# Altium integrated library TI Power Management Power Modules.IntLib: 831 symbols (part 10 of 44)
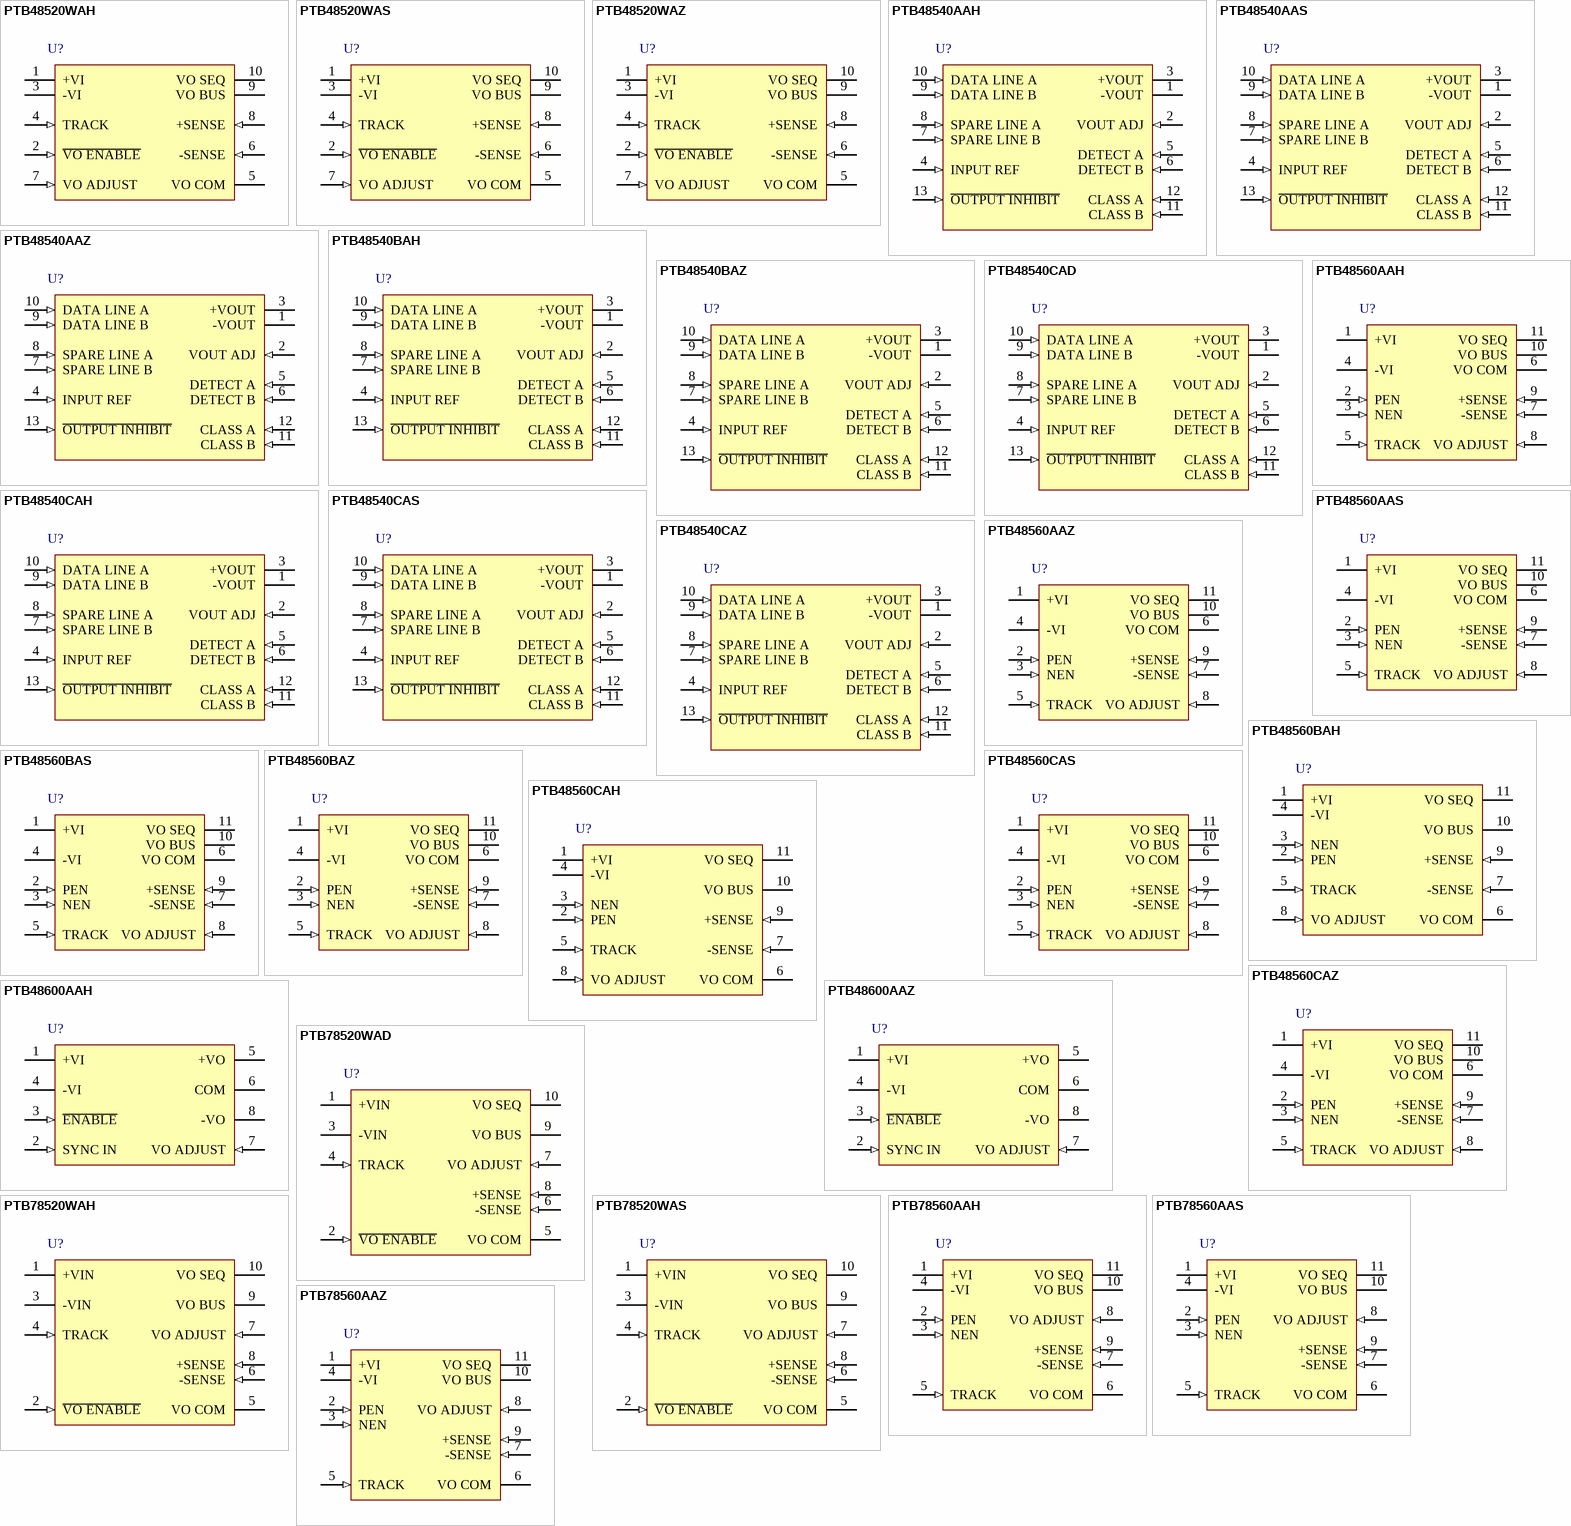
[diagram p32: symbols PTB48520WAH to PTB78560AAZ]

## PTB48540BAZ
designator U?
3.3 V, 10 W Power-Over-Ethernet Power Module, -40 to 85 degC, 13-pin Module (EUQ13), Pb-Free (RoHS); Manufacturer: Texas Instruments; PartNumber: PTB48540BAZ; Iout(Max)(A): 3; Regulated Outputs(#): 1; SubFamily: Standard Brick Module; Vin(Max)(V): 57; Vin(Min)(V): 36; VO Adjustable: TRUE; Vout(Max)(V): 3.65; Vout(Min)(V): 2.95; DatasheetVersion: SLTS224B; PackageVersion: 4205908/A; PackageReference: EUQ13; PackageDescription: 13-Pin Plastic Special Shape, Body 41.15 x 37.97 mm; Supplier 1: Digi-Key; Supplier Part Number 1: 296-20334-ND; Supplier 2: Newark; Supplier Part Number 2: 37K0684; Supplier 3: Mouser; Supplier Part Number 3: 595-PTB48540BAZ; Eco-Plan: Pb-Free (RoHS); Mounting Technology: Surface Mount; ComponentLink1Description: Manufacturer URL; ComponentLink1URL: http://www.ti.com/; ComponentLink2Description: Datasheet; ComponentLink2URL: http://www.ti.com/general/docs/lit/getliterature.tsp?genericPartNumber=PTB48540B&fileType=pdf; ComponentLink3Description: Package Specification; ComponentLink3URL: http://www.ti.com/lit/ml/mpds162/mpds162.pdf; ComponentLink4Description: URL Link1; ComponentLink4URL: Samples URL:http://www.ti.com/product/ptb48540b#samples
footprint TI-EUQ13_V (Module, 13-Leads, Body 41.15x37.97 mm)
pins: 1 -VOUT (power) "This is the negative output from the module, with respect to +Vout. Both the +Vout and -Vout terminals are isolated from the Ethernet input, and used to power the PD appliance. When this pin is connected to the PD appliance (See Datasheet)", 2 VOUT ADJ (in) "By connecting a single resistor to this pin, the regulated output voltage may be adjusted/trimmed by up to +/-10 % from the original set-point value. If no adjustment is desired, this pin should be left open circuit.", 3 +VOUT (power) "This is the positive output from the module with respect to -Vout, and is used to power the PD appliance. By connecting this pin to the PD appliance common, a negative supply voltage will be produced at -Vout.", 4 INPUT REF (in) "This pin provides access to the -Vin of the internal DC/DC converter, and is the 0-VDC reference for the ‘Output Inhibit’ control.", 5 DETECT A (in) "This is a control input that is normally left open circuit. The module incorporates an internal 24.9-kO resistor, between the ‘Detect A’ and ‘Detect B’ pins. This provides the PD with a correct “valid device” detection (See Datasheet)", 6 DETECT B (in) "This pin is used in conjunction with the ‘Detect A’ input only when it is desired for the PD to communicate a “non-valid” device signature to the PSE (see ‘Detect A’ description). ‘Detect B’ is also the rectified DC output (See Datasheet)", 7 SPARE LINE B (in) "These are alternative inputs from which the module may obtain DC input power. In a PoE application, ‘Spare Line A’ may be directly connected to pins 4 & 5, and ‘Spare Line B’ to pins 7 & 8 of an Ethernet RJ-45 connector. (See Datasheet)", 8 SPARE LINE A (in) "These are alternative inputs from which the module may obtain DC input power. In a PoE application, ‘Spare Line A’ may be directly connected to pins 4 & 5, and ‘Spare Line B’ to pins 7 & 8 of an Ethernet RJ-45 connector. (See Datasheet)", 9 DATA LINE B (in) "These are the main inputs from which the module obtains DC input power from the Ethernet connector. The connection of these inputs to the Ethernet connections must be via an IEEE 802.3af compliant signal tranformer, that is (See Datasheet)", 10 DATA LINE A (in) "These are the main inputs from which the module obtains DC input power from the Ethernet connector. The connection of these inputs to the Ethernet connections must be via an IEEE 802.3af compliant signal tranformer, that is (See Datasheet)", 11 CLASS B (in) "The control inputs ‘Class A’ and ‘Class B’ allow the PD Class to be programmed from the module. The module incorporates an internal 4.42-kO resistor between the ‘Class A’ and ‘Class B’ inputs. This corresponds to a default (See Datasheet)", 12 CLASS A (in) "The control inputs ‘Class A’ and ‘Class B’ allow the PD Class to be programmed from the module. The module incorporates an internal 4.42-kO resistor between the ‘Class A’ and ‘Class B’ inputs. This corresponds to a default (See Datasheet)", 13 ~{OUTPUT INHIBIT} (in) "This is an open-collector (or open-drain) negative logic input. Applying a low-level voltage to this input, with respect to the ‘Input Ref’ pin, turns off the DC output voltage from the module. If the pin is left (See Datasheet)"

## PTB48540CAD
designator U?
12 V, 10 W Power-Over-Ethernet Power Module, -40 to 85 degC, 13-pin Module (EUP13), Pb-Free (RoHS); Manufacturer: Texas Instruments; PartNumber: PTB48540CAD; Iout(Max)(A): 0.85; Regulated Outputs(#): 1; SubFamily: Standard Brick Module; Vin(Max)(V): 57; Vin(Min)(V): 36; VO Adjustable: TRUE; Vout(Max)(V): 13.2; Vout(Min)(V): 10.8; DatasheetVersion: SLTS224B; PackageVersion: 4205907/A; PackageReference: EUP13; PackageDescription: 13-Pin Plastic Special Shape, Body 41.15 x 37.97 mm; Supplier 1: Digi-Key; Supplier Part Number 1: PTB48540CAD-ND; Supplier 2: Newark; Supplier Part Number 2: 37K0685; Supplier 3: Mouser; Supplier Part Number 3: 595-PTB48540CAD; Eco-Plan: Pb-Free (RoHS); Mounting Technology: Surface Mount; ComponentLink1Description: Manufacturer URL; ComponentLink1URL: http://www.ti.com/; ComponentLink2Description: Datasheet; ComponentLink2URL: http://www.ti.com/general/docs/lit/getliterature.tsp?genericPartNumber=PTB48540C&fileType=pdf; ComponentLink3Description: Package Specification; ComponentLink3URL: http://www.ti.com/litv/pdf/mpds161; ComponentLink4Description: URL Link1; ComponentLink4URL: Samples URL:http://www.ti.com/product/ptb48540c#samples
footprint TI-EUP13_V (13-Leads Double Sided Module, Body 42.16x38.99mm)
pins: 1 -VOUT (power) "This is the negative output from the module, with respect to +Vout. Both the +Vout and -Vout terminals are isolated from the Ethernet input, and used to power the PD appliance. When this pin is connected to the PD appliance (See Datasheet)", 2 VOUT ADJ (in) "By connecting a single resistor to this pin, the regulated output voltage may be adjusted/trimmed by up to +/-10 % from the original set-point value. If no adjustment is desired, this pin should be left open circuit.", 3 +VOUT (power) "This is the positive output from the module with respect to -Vout, and is used to power the PD appliance. By connecting this pin to the PD appliance common, a negative supply voltage will be produced at -Vout.", 4 INPUT REF (in) "This pin provides access to the -Vin of the internal DC/DC converter, and is the 0-VDC reference for the ‘Output Inhibit’ control.", 5 DETECT A (in) "This is a control input that is normally left open circuit. The module incorporates an internal 24.9-kO resistor, between the ‘Detect A’ and ‘Detect B’ pins. This provides the PD with a correct “valid device” detection (See Datasheet)", 6 DETECT B (in) "This pin is used in conjunction with the ‘Detect A’ input only when it is desired for the PD to communicate a “non-valid” device signature to the PSE (see ‘Detect A’ description). ‘Detect B’ is also the rectified DC output (See Datasheet)", 7 SPARE LINE B (in) "These are alternative inputs from which the module may obtain DC input power. In a PoE application, ‘Spare Line A’ may be directly connected to pins 4 & 5, and ‘Spare Line B’ to pins 7 & 8 of an Ethernet RJ-45 connector. (See Datasheet)", 8 SPARE LINE A (in) "These are alternative inputs from which the module may obtain DC input power. In a PoE application, ‘Spare Line A’ may be directly connected to pins 4 & 5, and ‘Spare Line B’ to pins 7 & 8 of an Ethernet RJ-45 connector. (See Datasheet)", 9 DATA LINE B (in) "These are the main inputs from which the module obtains DC input power from the Ethernet connector. The connection of these inputs to the Ethernet connections must be via an IEEE 802.3af compliant signal tranformer, that is (See Datasheet)", 10 DATA LINE A (in) "These are the main inputs from which the module obtains DC input power from the Ethernet connector. The connection of these inputs to the Ethernet connections must be via an IEEE 802.3af compliant signal tranformer, that is (See Datasheet)", 11 CLASS B (in) "The control inputs ‘Class A’ and ‘Class B’ allow the PD Class to be programmed from the module. The module incorporates an internal 4.42-kO resistor between the ‘Class A’ and ‘Class B’ inputs. This corresponds to a default (See Datasheet)", 12 CLASS A (in) "The control inputs ‘Class A’ and ‘Class B’ allow the PD Class to be programmed from the module. The module incorporates an internal 4.42-kO resistor between the ‘Class A’ and ‘Class B’ inputs. This corresponds to a default (See Datasheet)", 13 ~{OUTPUT INHIBIT} (in) "This is an open-collector (or open-drain) negative logic input. Applying a low-level voltage to this input, with respect to the ‘Input Ref’ pin, turns off the DC output voltage from the module. If the pin is left (See Datasheet)"

## PTB48540CAH
designator U?
12 V, 10 W Power-Over-Ethernet Power Module, -40 to 85 degC, 13-pin Module (EUP13), Pb-Free (RoHS); Manufacturer: Texas Instruments; PartNumber: PTB48540CAH; Iout(Max)(A): 0.85; Regulated Outputs(#): 1; SubFamily: Standard Brick Module; Vin(Max)(V): 57; Vin(Min)(V): 36; VO Adjustable: TRUE; Vout(Max)(V): 13.2; Vout(Min)(V): 10.8; DatasheetVersion: SLTS224B; PackageVersion: 4205907/A; PackageReference: EUP13; PackageDescription: 13-Pin Plastic Special Shape, Body 41.15 x 37.97 mm; Supplier 1: Digi-Key; Supplier Part Number 1: 296-20335-ND; Supplier 2: Mouser; Supplier Part Number 2: 595-PTB48540CAH; Eco-Plan: Pb-Free (RoHS); Mounting Technology: Surface Mount; ComponentLink1Description: Manufacturer URL; ComponentLink1URL: http://www.ti.com/; ComponentLink2Description: Datasheet; ComponentLink2URL: http://www.ti.com/general/docs/lit/getliterature.tsp?genericPartNumber=PTB48540C&fileType=pdf; ComponentLink3Description: Package Specification; ComponentLink3URL: http://www.ti.com/litv/pdf/mpds161; ComponentLink4Description: URL Link1; ComponentLink4URL: Samples URL:http://www.ti.com/product/ptb48540c#samples
footprint TI-EUP13_V (13-Leads Double Sided Module, Body 42.16x38.99mm)
pins: 1 -VOUT (power) "This is the negative output from the module, with respect to +Vout. Both the +Vout and -Vout terminals are isolated from the Ethernet input, and used to power the PD appliance. When this pin is connected to the PD appliance (See Datasheet)", 2 VOUT ADJ (in) "By connecting a single resistor to this pin, the regulated output voltage may be adjusted/trimmed by up to +/-10 % from the original set-point value. If no adjustment is desired, this pin should be left open circuit.", 3 +VOUT (power) "This is the positive output from the module with respect to -Vout, and is used to power the PD appliance. By connecting this pin to the PD appliance common, a negative supply voltage will be produced at -Vout.", 4 INPUT REF (in) "This pin provides access to the -Vin of the internal DC/DC converter, and is the 0-VDC reference for the ‘Output Inhibit’ control.", 5 DETECT A (in) "This is a control input that is normally left open circuit. The module incorporates an internal 24.9-kO resistor, between the ‘Detect A’ and ‘Detect B’ pins. This provides the PD with a correct “valid device” detection (See Datasheet)", 6 DETECT B (in) "This pin is used in conjunction with the ‘Detect A’ input only when it is desired for the PD to communicate a “non-valid” device signature to the PSE (see ‘Detect A’ description). ‘Detect B’ is also the rectified DC output (See Datasheet)", 7 SPARE LINE B (in) "These are alternative inputs from which the module may obtain DC input power. In a PoE application, ‘Spare Line A’ may be directly connected to pins 4 & 5, and ‘Spare Line B’ to pins 7 & 8 of an Ethernet RJ-45 connector. (See Datasheet)", 8 SPARE LINE A (in) "These are alternative inputs from which the module may obtain DC input power. In a PoE application, ‘Spare Line A’ may be directly connected to pins 4 & 5, and ‘Spare Line B’ to pins 7 & 8 of an Ethernet RJ-45 connector. (See Datasheet)", 9 DATA LINE B (in) "These are the main inputs from which the module obtains DC input power from the Ethernet connector. The connection of these inputs to the Ethernet connections must be via an IEEE 802.3af compliant signal tranformer, that is (See Datasheet)", 10 DATA LINE A (in) "These are the main inputs from which the module obtains DC input power from the Ethernet connector. The connection of these inputs to the Ethernet connections must be via an IEEE 802.3af compliant signal tranformer, that is (See Datasheet)", 11 CLASS B (in) "The control inputs ‘Class A’ and ‘Class B’ allow the PD Class to be programmed from the module. The module incorporates an internal 4.42-kO resistor between the ‘Class A’ and ‘Class B’ inputs. This corresponds to a default (See Datasheet)", 12 CLASS A (in) "The control inputs ‘Class A’ and ‘Class B’ allow the PD Class to be programmed from the module. The module incorporates an internal 4.42-kO resistor between the ‘Class A’ and ‘Class B’ inputs. This corresponds to a default (See Datasheet)", 13 ~{OUTPUT INHIBIT} (in) "This is an open-collector (or open-drain) negative logic input. Applying a low-level voltage to this input, with respect to the ‘Input Ref’ pin, turns off the DC output voltage from the module. If the pin is left (See Datasheet)"

## PTB48540CAS
designator U?
12 V, 10 W Power-Over-Ethernet Power Module, -40 to 85 degC, 13-pin Module (EUQ13); Manufacturer: Texas Instruments; PartNumber: PTB48540CAS; Eco-Plan: TBD; Iout(Max)(A): 0.85; Regulated Outputs(#): 1; SubFamily: Standard Brick Module; Vin(Max)(V): 57; Vin(Min)(V): 36; VO Adjustable: TRUE; Vout(Max)(V): 13.2; Vout(Min)(V): 10.8; DatasheetVersion: SLTS224B; PackageVersion: 4205908/A; PackageReference: EUQ13; PackageDescription: 13-Pin Plastic Special Shape, Body 41.15 x 37.97 mm; Supplier 1: Digi-Key; Supplier Part Number 1: 296-20336-ND; Supplier 2: Newark; Supplier Part Number 2: 10J9537; Supplier 3: Mouser; Supplier Part Number 3: 595-PTB48540CAS; Mounting Technology: Surface Mount; ComponentLink1Description: Manufacturer URL; ComponentLink1URL: http://www.ti.com/; ComponentLink2Description: Datasheet; ComponentLink2URL: http://www.ti.com/general/docs/lit/getliterature.tsp?genericPartNumber=PTB48540C&fileType=pdf; ComponentLink3Description: Package Specification; ComponentLink3URL: http://www.ti.com/lit/ml/mpds162/mpds162.pdf; ComponentLink4Description: URL Link1; ComponentLink4URL: Samples URL:http://www.ti.com/product/ptb48540c#samples
footprint TI-EUQ13_V (Module, 13-Leads, Body 41.15x37.97 mm)
pins: 1 -VOUT (power) "This is the negative output from the module, with respect to +Vout. Both the +Vout and -Vout terminals are isolated from the Ethernet input, and used to power the PD appliance. When this pin is connected to the PD appliance (See Datasheet)", 2 VOUT ADJ (in) "By connecting a single resistor to this pin, the regulated output voltage may be adjusted/trimmed by up to +/-10 % from the original set-point value. If no adjustment is desired, this pin should be left open circuit.", 3 +VOUT (power) "This is the positive output from the module with respect to -Vout, and is used to power the PD appliance. By connecting this pin to the PD appliance common, a negative supply voltage will be produced at -Vout.", 4 INPUT REF (in) "This pin provides access to the -Vin of the internal DC/DC converter, and is the 0-VDC reference for the ‘Output Inhibit’ control.", 5 DETECT A (in) "This is a control input that is normally left open circuit. The module incorporates an internal 24.9-kO resistor, between the ‘Detect A’ and ‘Detect B’ pins. This provides the PD with a correct “valid device” detection (See Datasheet)", 6 DETECT B (in) "This pin is used in conjunction with the ‘Detect A’ input only when it is desired for the PD to communicate a “non-valid” device signature to the PSE (see ‘Detect A’ description). ‘Detect B’ is also the rectified DC output (See Datasheet)", 7 SPARE LINE B (in) "These are alternative inputs from which the module may obtain DC input power. In a PoE application, ‘Spare Line A’ may be directly connected to pins 4 & 5, and ‘Spare Line B’ to pins 7 & 8 of an Ethernet RJ-45 connector. (See Datasheet)", 8 SPARE LINE A (in) "These are alternative inputs from which the module may obtain DC input power. In a PoE application, ‘Spare Line A’ may be directly connected to pins 4 & 5, and ‘Spare Line B’ to pins 7 & 8 of an Ethernet RJ-45 connector. (See Datasheet)", 9 DATA LINE B (in) "These are the main inputs from which the module obtains DC input power from the Ethernet connector. The connection of these inputs to the Ethernet connections must be via an IEEE 802.3af compliant signal tranformer, that is (See Datasheet)", 10 DATA LINE A (in) "These are the main inputs from which the module obtains DC input power from the Ethernet connector. The connection of these inputs to the Ethernet connections must be via an IEEE 802.3af compliant signal tranformer, that is (See Datasheet)", 11 CLASS B (in) "The control inputs ‘Class A’ and ‘Class B’ allow the PD Class to be programmed from the module. The module incorporates an internal 4.42-kO resistor between the ‘Class A’ and ‘Class B’ inputs. This corresponds to a default (See Datasheet)", 12 CLASS A (in) "The control inputs ‘Class A’ and ‘Class B’ allow the PD Class to be programmed from the module. The module incorporates an internal 4.42-kO resistor between the ‘Class A’ and ‘Class B’ inputs. This corresponds to a default (See Datasheet)", 13 ~{OUTPUT INHIBIT} (in) "This is an open-collector (or open-drain) negative logic input. Applying a low-level voltage to this input, with respect to the ‘Input Ref’ pin, turns off the DC output voltage from the module. If the pin is left (See Datasheet)"

## PTB48540CAZ
designator U?
12 V, 10 W Power-Over-Ethernet Power Module, -40 to 85 degC, 13-pin Module (EUQ13), Pb-Free (RoHS); Manufacturer: Texas Instruments; PartNumber: PTB48540CAZ; Iout(Max)(A): 0.85; Regulated Outputs(#): 1; SubFamily: Standard Brick Module; Vin(Max)(V): 57; Vin(Min)(V): 36; VO Adjustable: TRUE; Vout(Max)(V): 13.2; Vout(Min)(V): 10.8; DatasheetVersion: SLTS224B; PackageVersion: 4205908/A; PackageReference: EUQ13; PackageDescription: 13-Pin Plastic Special Shape, Body 41.15 x 37.97 mm; Supplier 1: Digi-Key; Supplier Part Number 1: 296-20337-ND; Supplier 2: Newark; Supplier Part Number 2: 37K0686; Supplier 3: Mouser; Supplier Part Number 3: 595-PTB48540CAZ; Eco-Plan: Pb-Free (RoHS); Mounting Technology: Surface Mount; ComponentLink1Description: Manufacturer URL; ComponentLink1URL: http://www.ti.com/; ComponentLink2Description: Datasheet; ComponentLink2URL: http://www.ti.com/general/docs/lit/getliterature.tsp?genericPartNumber=PTB48540C&fileType=pdf; ComponentLink3Description: Package Specification; ComponentLink3URL: http://www.ti.com/lit/ml/mpds162/mpds162.pdf; ComponentLink4Description: URL Link1; ComponentLink4URL: Samples URL:http://www.ti.com/product/tps55010#samples
footprint TI-EUQ13_V (Module, 13-Leads, Body 41.15x37.97 mm)
pins: 1 -VOUT (power) "This is the negative output from the module, with respect to +Vout. Both the +Vout and -Vout terminals are isolated from the Ethernet input, and used to power the PD appliance. When this pin is connected to the PD appliance (See Datasheet)", 2 VOUT ADJ (in) "By connecting a single resistor to this pin, the regulated output voltage may be adjusted/trimmed by up to +/-10 % from the original set-point value. If no adjustment is desired, this pin should be left open circuit.", 3 +VOUT (power) "This is the positive output from the module with respect to -Vout, and is used to power the PD appliance. By connecting this pin to the PD appliance common, a negative supply voltage will be produced at -Vout.", 4 INPUT REF (in) "This pin provides access to the -Vin of the internal DC/DC converter, and is the 0-VDC reference for the ‘Output Inhibit’ control.", 5 DETECT A (in) "This is a control input that is normally left open circuit. The module incorporates an internal 24.9-kO resistor, between the ‘Detect A’ and ‘Detect B’ pins. This provides the PD with a correct “valid device” detection (See Datasheet)", 6 DETECT B (in) "This pin is used in conjunction with the ‘Detect A’ input only when it is desired for the PD to communicate a “non-valid” device signature to the PSE (see ‘Detect A’ description). ‘Detect B’ is also the rectified DC output (See Datasheet)", 7 SPARE LINE B (in) "These are alternative inputs from which the module may obtain DC input power. In a PoE application, ‘Spare Line A’ may be directly connected to pins 4 & 5, and ‘Spare Line B’ to pins 7 & 8 of an Ethernet RJ-45 connector. (See Datasheet)", 8 SPARE LINE A (in) "These are alternative inputs from which the module may obtain DC input power. In a PoE application, ‘Spare Line A’ may be directly connected to pins 4 & 5, and ‘Spare Line B’ to pins 7 & 8 of an Ethernet RJ-45 connector. (See Datasheet)", 9 DATA LINE B (in) "These are the main inputs from which the module obtains DC input power from the Ethernet connector. The connection of these inputs to the Ethernet connections must be via an IEEE 802.3af compliant signal tranformer, that is (See Datasheet)", 10 DATA LINE A (in) "These are the main inputs from which the module obtains DC input power from the Ethernet connector. The connection of these inputs to the Ethernet connections must be via an IEEE 802.3af compliant signal tranformer, that is (See Datasheet)", 11 CLASS B (in) "The control inputs ‘Class A’ and ‘Class B’ allow the PD Class to be programmed from the module. The module incorporates an internal 4.42-kO resistor between the ‘Class A’ and ‘Class B’ inputs. This corresponds to a default (See Datasheet)", 12 CLASS A (in) "The control inputs ‘Class A’ and ‘Class B’ allow the PD Class to be programmed from the module. The module incorporates an internal 4.42-kO resistor between the ‘Class A’ and ‘Class B’ inputs. This corresponds to a default (See Datasheet)", 13 ~{OUTPUT INHIBIT} (in) "This is an open-collector (or open-drain) negative logic input. Applying a low-level voltage to this input, with respect to the ‘Input Ref’ pin, turns off the DC output voltage from the module. If the pin is left (See Datasheet)"

## PTB48560AAH
designator U?
30 W, 3.6 to 5.5 V Adjustable DC-DC Converter with Auto-Track, -40 to 85 degC, 11-pin Module (ERW11), Pb-Free (RoHS); Manufacturer: Texas Instruments; PartNumber: PTB48560AAH; Iout(Max)(A): 6; Regulated Outputs(#): 1; SubFamily: Standard Brick Module; Vin(Max)(V): 75; Vin(Min)(V): 36; VO Adjustable: TRUE; Vout(Max)(V): 5.5; Vout(Min)(V): 3.6; DatasheetVersion: SLTS236A; PackageVersion: 4206562/A; PackageReference: ERW11; PackageDescription: 11-Pin Plastic Special Shape, Body 26.54 x 51.94 mm; Supplier 1: Digi-Key; Supplier Part Number 1: 296-20338-ND; Supplier 2: Newark; Supplier Part Number 2: 28K3810; Supplier 3: Mouser; Supplier Part Number 3: 595-PTB48560AAH; Eco-Plan: Pb-Free (RoHS); Mounting Technology: Through Hole; ComponentLink1Description: Manufacturer URL; ComponentLink1URL: http://www.ti.com/; ComponentLink2Description: Datasheet; ComponentLink2URL: http://www.ti.com/general/docs/lit/getliterature.tsp?genericPartNumber=PTB48560A&fileType=pdf; ComponentLink3Description: Package Specification; ComponentLink3URL: http://www.ti.com/litv/pdf/mpds197; ComponentLink4Description: URL Link1; ComponentLink4URL: Samples URL:http://www.ti.com/product/ptb48560a#samples
footprint TI-ERW11_V (Module, 11-Leads, Body 51.94x26.54 mm)
pins: 1 +VI (power) "The positive input for the module with respect to -VI . When powering the module from a negative input voltage, this input is connected to the input source ground.", 2 PEN (in) "An open-collector (open-drain) positive logic input that is referenced to -VI . When this input is pulled to potential the converter output is disabled. This input must be open circuit for the converter to operate. The (See Datasheet)", 3 NEN (in) "An open-collector (open-drain) negative logic input that is referenced to -VI . This input must be pulled to -VI potential to enable the converter. When the input is open circuit, the converter output is disabled. If the (See Datasheet)", 4 -VI (power) "The negative input supply for the module, and the 0-V reference for the PEN and NEN enable inputs. When powering the module from a positive source, this input is connected to the input source return.", 5 TRACK (in) "This terminal is used in power-up sequencing applications to control the output voltage of Auto-Track compatible modules, powered from the converter VOBus output. This includes the converter VOSeq output on the PTB78560B. (See Datasheet)", 6 VO COM (power) "This is the output power return for both the VO Bus and VO Seq output voltages. This terminal should be connected to the common of the load circuit.", 7 -SENSE (in) "Provides the converter with a remote sense capability when used with +Sense. For optimum output voltage accuracy, this pin should always be connected to VOCOM, close to the load circuit. This terminal is also the reference (See Datasheet)", 8 VO ADJUST (in) "A resistor must be connected between this terminal and -Sense to set the converter output voltage. A 0.05-W rated resistor may be used, with tolerance and temperature stability of 1% and 100 ppm/degreesC, respectively. If (See Datasheet)", 9 +SENSE (in) "The +Sense pin can be connected to VOBus (or VOSeq) output. When connected to VOSeq, remote sense compensation is delayed until the converter's power-up sequence is complete. The voltage at VOBus is also raised slightly. The (See Datasheet)", 10 VO BUS (power) "This is the positive power output with respect to VO COM, and the main output from the converter. It is dc isolated from the input power pins and produces a valid output voltage approximately 20 ms before the voltage at the (See Datasheet)", 11 VO SEQ (power) "This is a sequenced output voltage from the converter that is controlled by the Track terminal during power-up transitions. It is only available to the PTB78560B, and used with the output voltage set to 3.3 V (an I/O supply (See Datasheet)"

## PTB48560AAS
designator U?
30 W, 3.6 to 5.5 V Adjustable DC-DC Converter with Auto-Track, -40 to 85 degC, 11-pin Module (ERY11); Manufacturer: Texas Instruments; PartNumber: PTB48560AAS; Eco-Plan: TBD; Iout(Max)(A): 6; Regulated Outputs(#): 1; SubFamily: Standard Brick Module; Vin(Max)(V): 75; Vin(Min)(V): 36; VO Adjustable: TRUE; Vout(Max)(V): 5.5; Vout(Min)(V): 3.6; DatasheetVersion: SLTS236A; PackageVersion: 4206563/A; PackageReference: ERY11; PackageDescription: 11-Pin Plastic Special Shape, Body 26.54 x 51.94 mm; Supplier 1: Digi-Key; Supplier Part Number 1: 296-20339-ND; Supplier 2: Newark; Supplier Part Number 2: 28K3811; Supplier 3: Mouser; Supplier Part Number 3: 595-PTB48560AAS; Mounting Technology: Surface Mount; ComponentLink1Description: Manufacturer URL; ComponentLink1URL: http://www.ti.com/; ComponentLink2Description: Datasheet; ComponentLink2URL: http://www.ti.com/general/docs/lit/getliterature.tsp?genericPartNumber=PTB48560A&fileType=pdf; ComponentLink3Description: Package Specification; ComponentLink3URL: http://www.ti.com/lit/ml/mpds198/mpds198.pdf; ComponentLink4Description: URL Link1; ComponentLink4URL: Samples URL:http://www.ti.com/product/ptb48560a#samples
footprint TI-ERY11_V (Module, 11-Leads, Body 51.94x26.54mm)
pins: 1 +VI (power) "The positive input for the module with respect to -VI . When powering the module from a negative input voltage, this input is connected to the input source ground.", 2 PEN (in) "An open-collector (open-drain) positive logic input that is referenced to -VI . When this input is pulled to potential the converter output is disabled. This input must be open circuit for the converter to operate. The (See Datasheet)", 3 NEN (in) "An open-collector (open-drain) negative logic input that is referenced to -VI . This input must be pulled to -VI potential to enable the converter. When the input is open circuit, the converter output is disabled. If the (See Datasheet)", 4 -VI (power) "The negative input supply for the module, and the 0-V reference for the PEN and NEN enable inputs. When powering the module from a positive source, this input is connected to the input source return.", 5 TRACK (in) "This terminal is used in power-up sequencing applications to control the output voltage of Auto-Track compatible modules, powered from the converter VOBus output. This includes the converter VOSeq output on the PTB78560B. (See Datasheet)", 6 VO COM (power) "This is the output power return for both the VO Bus and VO Seq output voltages. This terminal should be connected to the common of the load circuit.", 7 -SENSE (in) "Provides the converter with a remote sense capability when used with +Sense. For optimum output voltage accuracy, this pin should always be connected to VOCOM, close to the load circuit. This terminal is also the reference (See Datasheet)", 8 VO ADJUST (in) "A resistor must be connected between this terminal and -Sense to set the converter output voltage. A 0.05-W rated resistor may be used, with tolerance and temperature stability of 1% and 100 ppm/degreesC, respectively. If (See Datasheet)", 9 +SENSE (in) "The +Sense pin can be connected to VOBus (or VOSeq) output. When connected to VOSeq, remote sense compensation is delayed until the converter's power-up sequence is complete. The voltage at VOBus is also raised slightly. The (See Datasheet)", 10 VO BUS (power) "This is the positive power output with respect to VO COM, and the main output from the converter. It is dc isolated from the input power pins and produces a valid output voltage approximately 20 ms before the voltage at the (See Datasheet)", 11 VO SEQ (power) "This is a sequenced output voltage from the converter that is controlled by the Track terminal during power-up transitions. It is only available to the PTB78560B, and used with the output voltage set to 3.3 V (an I/O supply (See Datasheet)"

## PTB48560AAZ
designator U?
30 W, 3.6 to 5.5 V Adjustable DC-DC Converter with Auto-Track, -40 to 85 degC, 11-pin Module (ERY11), Pb-Free (RoHS); Manufacturer: Texas Instruments; PartNumber: PTB48560AAZ; Iout(Max)(A): 6; Regulated Outputs(#): 1; SubFamily: Standard Brick Module; Vin(Max)(V): 75; Vin(Min)(V): 36; VO Adjustable: TRUE; Vout(Max)(V): 5.5; Vout(Min)(V): 3.6; DatasheetVersion: SLTS236A; PackageVersion: 4206563/A; PackageReference: ERY11; PackageDescription: 11-Pin Plastic Special Shape, Body 26.54 x 51.94 mm; Supplier 1: Digi-Key; Supplier Part Number 1: 296-20340-ND; Supplier 2: Newark; Supplier Part Number 2: 37K0687; Supplier 3: Mouser; Supplier Part Number 3: 595-PTB48560AAZ; Eco-Plan: Pb-Free (RoHS); Mounting Technology: Surface Mount; ComponentLink1Description: Manufacturer URL; ComponentLink1URL: http://www.ti.com/; ComponentLink2Description: Datasheet; ComponentLink2URL: http://www.ti.com/general/docs/lit/getliterature.tsp?genericPartNumber=PTB48560A&fileType=pdf; ComponentLink3Description: Package Specification; ComponentLink3URL: http://www.ti.com/lit/ml/mpds198/mpds198.pdf; ComponentLink4Description: URL Link1; ComponentLink4URL: Samples URL:http://www.ti.com/product/ptb48560a#samples
footprint TI-ERY11_V (Module, 11-Leads, Body 51.94x26.54mm)
pins: 1 +VI (power) "The positive input for the module with respect to -VI . When powering the module from a negative input voltage, this input is connected to the input source ground.", 2 PEN (in) "An open-collector (open-drain) positive logic input that is referenced to -VI . When this input is pulled to potential the converter output is disabled. This input must be open circuit for the converter to operate. The (See Datasheet)", 3 NEN (in) "An open-collector (open-drain) negative logic input that is referenced to -VI . This input must be pulled to -VI potential to enable the converter. When the input is open circuit, the converter output is disabled. If the (See Datasheet)", 4 -VI (power) "The negative input supply for the module, and the 0-V reference for the PEN and NEN enable inputs. When powering the module from a positive source, this input is connected to the input source return.", 5 TRACK (in) "This terminal is used in power-up sequencing applications to control the output voltage of Auto-Track compatible modules, powered from the converter VOBus output. This includes the converter VOSeq output on the PTB78560B. (See Datasheet)", 6 VO COM (power) "This is the output power return for both the VO Bus and VO Seq output voltages. This terminal should be connected to the common of the load circuit.", 7 -SENSE (in) "Provides the converter with a remote sense capability when used with +Sense. For optimum output voltage accuracy, this pin should always be connected to VOCOM, close to the load circuit. This terminal is also the reference (See Datasheet)", 8 VO ADJUST (in) "A resistor must be connected between this terminal and -Sense to set the converter output voltage. A 0.05-W rated resistor may be used, with tolerance and temperature stability of 1% and 100 ppm/degreesC, respectively. If (See Datasheet)", 9 +SENSE (in) "The +Sense pin can be connected to VOBus (or VOSeq) output. When connected to VOSeq, remote sense compensation is delayed until the converter's power-up sequence is complete. The voltage at VOBus is also raised slightly. The (See Datasheet)", 10 VO BUS (power) "This is the positive power output with respect to VO COM, and the main output from the converter. It is dc isolated from the input power pins and produces a valid output voltage approximately 20 ms before the voltage at the (See Datasheet)", 11 VO SEQ (power) "This is a sequenced output voltage from the converter that is controlled by the Track terminal during power-up transitions. It is only available to the PTB78560B, and used with the output voltage set to 3.3 V (an I/O supply (See Datasheet)"

## PTB48560BAH
designator U?
30 W 48 V Input DC-DC Converter with Auto-Track Sequencing, -40 to 85 degC, 11-pin Module (ERW11), Pb-Free (RoHS); Manufacturer: Texas Instruments; PartNumber: PTB48560BAH; Iout(Max)(A): 8; Regulated Outputs(#): 1; SubFamily: Standard Brick Module; Vin(Max)(V): 75; Vin(Min)(V): 36; VO Adjustable: TRUE; Vout(Max)(V): 3.6; Vout(Min)(V): 1.8; DatasheetVersion: SLTS236A; PackageVersion: 4206562/A; PackageReference: ERW11; PackageDescription: 11-Pin Plastic Special Shape, Body 26.54 x 51.94 mm; Supplier 1: Digi-Key; Supplier Part Number 1: 296-20341-ND; Supplier 2: Farnell; Supplier Part Number 2: 1696307; Supplier 3: Newark; Supplier Part Number 3: 28K3812; Supplier 4: Mouser; Supplier Part Number 4: 595-PTB48560BAH; Eco-Plan: Pb-Free (RoHS); Mounting Technology: Through Hole; ComponentLink1Description: Manufacturer URL; ComponentLink1URL: http://www.ti.com/; ComponentLink2Description: Datasheet; ComponentLink2URL: http://www.ti.com/general/docs/lit/getliterature.tsp?genericPartNumber=PTB48560B&fileType=pdf; ComponentLink3Description: Package Specification; ComponentLink3URL: http://www.ti.com/litv/pdf/mpds197; ComponentLink4Description: URL Link1; ComponentLink4URL: Samples URL:http://www.ti.com/product/ptb48560b#samples
footprint TI-ERW11_V (Module, 11-Leads, Body 51.94x26.54 mm)
pins: 1 +VI (power) "The positive input for the module with respect to -VI. When powering the module from a negative input voltage, this input is connected to the input source ground.", 2 PEN (in) "An open-collector (open-drain) positive logic input that is referenced to -VI. When this input is pulled to -VI potential the converter output is disabled. This input must be open circuit for the converter to operate. The (See Datasheet)", 3 NEN (in) "An open-collector (open-drain) negative logic input that is referenced to -VI. This input must be pulled to -VI potential to enable the converter. When the input is open circuit, the converter output is disabled. If the (See Datasheet)", 4 -VI (power) "The negative input supply for the module, and the 0-V reference for the PEN and NEN enable inputs. When powering the module from a positive source, this input is connected to the input source return.", 5 TRACK (in) "This terminal is used in power-up sequencing applications to control the output voltage of Auto-Track compatible modules, powered from the converter VOBus output. This includes the converter VOSeq output on the PTB48560B. (See Datasheet)", 6 VO COM (power) "This is the output power return for both the VO Bus and VO Seq output voltages. This terminal should be connected to the common of the load circuit.", 7 -SENSE (in) "Provides the converter with a remote sense capability when used with +Sense. For optimum output voltage accuracy, this pin should always be connected to VOCOM, close to the load circuit. This terminal is also the reference (See Datasheet)", 8 VO ADJUST (in) "A resistor must be connected between this terminal and -Sense to set the converter output voltage. A 0.05-W rated resistor may be used, with tolerance and temperature stability of 1% and 100 ppm/degreesC, respectively. If (See Datasheet)", 9 +SENSE (in) "The +Sense pin can be connected to VOBus (or VOSeq) output. When connected to VOSeq, remote sense compensation is delayed until the converter's power-up sequence is complete. The voltage at VOBus is also raised slightly. The (See Datasheet)", 10 VO BUS (power) "This is the positive power output with respect to VO COM, and the main output from the converter. It is dc isolated from the input power pins and produces a valid output voltage approximately 20 ms before the voltage at the (See Datasheet)", 11 VO SEQ (power) "This is a sequenced output voltage from the converter that is controlled by the Track terminal during power-up transitions. It is only available to the PTB48560B, and used with the output voltage set to 3.3 V (an I/O supply (See Datasheet)"

## PTB48560BAS
designator U?
30 W 48 V Input DC-DC Converter with Auto-Track Sequencing, -40 to 85 degC, 11-pin Module (ERY11); Manufacturer: Texas Instruments; PartNumber: PTB48560BAS; Eco-Plan: TBD; Iout(Max)(A): 8; Regulated Outputs(#): 1; SubFamily: Standard Brick Module; Vin(Max)(V): 75; Vin(Min)(V): 36; VO Adjustable: TRUE; Vout(Max)(V): 3.6; Vout(Min)(V): 1.8; DatasheetVersion: SLTS236A; PackageVersion: 4206563/A; PackageReference: ERY11; PackageDescription: 11-Pin Plastic Special Shape, Body 26.54 x 51.94 mm; Supplier 1: Digi-Key; Supplier Part Number 1: 296-20342-ND; Supplier 2: Mouser; Supplier Part Number 2: 595-PTB48560BAS; Mounting Technology: Surface Mount; ComponentLink1Description: Manufacturer URL; ComponentLink1URL: http://www.ti.com/; ComponentLink2Description: Datasheet; ComponentLink2URL: http://www.ti.com/general/docs/lit/getliterature.tsp?genericPartNumber=PTB48560B&fileType=pdf; ComponentLink3Description: Package Specification; ComponentLink3URL: http://www.ti.com/lit/ml/mpds198/mpds198.pdf; ComponentLink4Description: URL Link1; ComponentLink4URL: Samples URL:http://www.ti.com/product/ptb48560b#samples
footprint TI-ERY11_V (Module, 11-Leads, Body 51.94x26.54mm)
pins: 1 +VI (power) "The positive input for the module with respect to -VI . When powering the module from a negative input voltage, this input is connected to the input source ground.", 2 PEN (in) "An open-collector (open-drain) positive logic input that is referenced to -VI . When this input is pulled to potential the converter output is disabled. This input must be open circuit for the converter to operate. The (See Datasheet)", 3 NEN (in) "An open-collector (open-drain) negative logic input that is referenced to -VI . This input must be pulled to -VI potential to enable the converter. When the input is open circuit, the converter output is disabled. If the (See Datasheet)", 4 -VI (power) "The negative input supply for the module, and the 0-V reference for the PEN and NEN enable inputs. When powering the module from a positive source, this input is connected to the input source return.", 5 TRACK (in) "This terminal is used in power-up sequencing applications to control the output voltage of Auto-Track compatible modules, powered from the converter VOBus output. This includes the converter VOSeq output on the PTB78560B. (See Datasheet)", 6 VO COM (power) "This is the output power return for both the VO Bus and VO Seq output voltages. This terminal should be connected to the common of the load circuit.", 7 -SENSE (in) "Provides the converter with a remote sense capability when used with +Sense. For optimum output voltage accuracy, this pin should always be connected to VOCOM, close to the load circuit. This terminal is also the reference (See Datasheet)", 8 VO ADJUST (in) "A resistor must be connected between this terminal and -Sense to set the converter output voltage. A 0.05-W rated resistor may be used, with tolerance and temperature stability of 1% and 100 ppm/degreesC, respectively. If (See Datasheet)", 9 +SENSE (in) "The +Sense pin can be connected to VOBus (or VOSeq) output. When connected to VOSeq, remote sense compensation is delayed until the converter's power-up sequence is complete. The voltage at VOBus is also raised slightly. The (See Datasheet)", 10 VO BUS (power) "This is the positive power output with respect to VO COM, and the main output from the converter. It is dc isolated from the input power pins and produces a valid output voltage approximately 20 ms before the voltage at the (See Datasheet)", 11 VO SEQ (power) "This is a sequenced output voltage from the converter that is controlled by the Track terminal during power-up transitions. It is only available to the PTB78560B, and used with the output voltage set to 3.3 V (an I/O supply (See Datasheet)"

## PTB48560BAZ
designator U?
30 W 48 V Input DC-DC Converter with Auto-Track Sequencing, -40 to 85 degC, 11-pin Module (ERY11), Pb-Free (RoHS); Manufacturer: Texas Instruments; PartNumber: PTB48560BAZ; Iout(Max)(A): 8; Regulated Outputs(#): 1; SubFamily: Standard Brick Module; Vin(Max)(V): 75; Vin(Min)(V): 36; VO Adjustable: TRUE; Vout(Max)(V): 3.6; Vout(Min)(V): 1.8; DatasheetVersion: SLTS236A; PackageVersion: 4206563/A; PackageReference: ERY11; PackageDescription: 11-Pin Plastic Special Shape, Body 26.54 x 51.94 mm; Supplier 1: Digi-Key; Supplier Part Number 1: 296-20343-ND; Supplier 2: Newark; Supplier Part Number 2: 37K0688; Supplier 3: Mouser; Supplier Part Number 3: 595-PTB48560BAZ; Eco-Plan: Pb-Free (RoHS); Mounting Technology: Surface Mount; ComponentLink1Description: Manufacturer URL; ComponentLink1URL: http://www.ti.com/; ComponentLink2Description: Datasheet; ComponentLink2URL: http://www.ti.com/general/docs/lit/getliterature.tsp?genericPartNumber=PTB48560B&fileType=pdf; ComponentLink3Description: Package Specification; ComponentLink3URL: http://www.ti.com/lit/ml/mpds198/mpds198.pdf; ComponentLink4Description: URL Link1; ComponentLink4URL: Samples URL:http://www.ti.com/product/ptb48560b#samples
footprint TI-ERY11_V (Module, 11-Leads, Body 51.94x26.54mm)
pins: 1 +VI (power) "The positive input for the module with respect to -VI . When powering the module from a negative input voltage, this input is connected to the input source ground.", 2 PEN (in) "An open-collector (open-drain) positive logic input that is referenced to -VI . When this input is pulled to potential the converter output is disabled. This input must be open circuit for the converter to operate. The (See Datasheet)", 3 NEN (in) "An open-collector (open-drain) negative logic input that is referenced to -VI . This input must be pulled to -VI potential to enable the converter. When the input is open circuit, the converter output is disabled. If the (See Datasheet)", 4 -VI (power) "The negative input supply for the module, and the 0-V reference for the PEN and NEN enable inputs. When powering the module from a positive source, this input is connected to the input source return.", 5 TRACK (in) "This terminal is used in power-up sequencing applications to control the output voltage of Auto-Track compatible modules, powered from the converter VOBus output. This includes the converter VOSeq output on the PTB78560B. (See Datasheet)", 6 VO COM (power) "This is the output power return for both the VO Bus and VO Seq output voltages. This terminal should be connected to the common of the load circuit.", 7 -SENSE (in) "Provides the converter with a remote sense capability when used with +Sense. For optimum output voltage accuracy, this pin should always be connected to VOCOM, close to the load circuit. This terminal is also the reference (See Datasheet)", 8 VO ADJUST (in) "A resistor must be connected between this terminal and -Sense to set the converter output voltage. A 0.05-W rated resistor may be used, with tolerance and temperature stability of 1% and 100 ppm/degreesC, respectively. If (See Datasheet)", 9 +SENSE (in) "The +Sense pin can be connected to VOBus (or VOSeq) output. When connected to VOSeq, remote sense compensation is delayed until the converter's power-up sequence is complete. The voltage at VOBus is also raised slightly. The (See Datasheet)", 10 VO BUS (power) "This is the positive power output with respect to VO COM, and the main output from the converter. It is dc isolated from the input power pins and produces a valid output voltage approximately 20 ms before the voltage at the (See Datasheet)", 11 VO SEQ (power) "This is a sequenced output voltage from the converter that is controlled by the Track terminal during power-up transitions. It is only available to the PTB78560B, and used with the output voltage set to 3.3 V (an I/O supply (See Datasheet)"

## PTB48560CAH
designator U?
30 W, 9 to 13.2 V Adjustable DC-DC Converter with Auto-Track, -40 to 85 degC, 11-pin Module (ERW11), Pb-Free (RoHS); Manufacturer: Texas Instruments; PartNumber: PTB48560CAH; Iout(Max)(A): 2.5; Regulated Outputs(#): 1; SubFamily: Standard Brick Module; Vin(Max)(V): 75; Vin(Min)(V): 36; VO Adjustable: TRUE; Vout(Max)(V): 13.2; Vout(Min)(V): 9; DatasheetVersion: SLTS236A; PackageVersion: 4206562/A; PackageReference: ERW11; PackageDescription: 11-Pin Plastic Special Shape, Body 26.54 x 51.94 mm; Supplier 1: Digi-Key; Supplier Part Number 1: 296-20344-ND; Supplier 2: Newark; Supplier Part Number 2: 28K3814; Supplier 3: Mouser; Supplier Part Number 3: 595-PTB48560CAH; Eco-Plan: Pb-Free (RoHS); Mounting Technology: Through Hole; ComponentLink1Description: Manufacturer URL; ComponentLink1URL: http://www.ti.com/; ComponentLink2Description: Datasheet; ComponentLink2URL: http://www.ti.com/general/docs/lit/getliterature.tsp?genericPartNumber=PTB48560C&fileType=pdf; ComponentLink3Description: Package Specification; ComponentLink3URL: http://www.ti.com/litv/pdf/mpds197; ComponentLink4Description: URL Link1; ComponentLink4URL: Samples URL:http://www.ti.com/product/ptb48560c#samples
footprint TI-ERW11_V (Module, 11-Leads, Body 51.94x26.54 mm)
pins: 1 +VI (power) "The positive input for the module with respect to -VI. When powering the module from a negative input voltage, this input is connected to the input source ground.", 2 PEN (in) "An open-collector (open-drain) positive logic input that is referenced to -VI. When this input is pulled to -VI potential the converter output is disabled. This input must be open circuit for the converter to operate. The (See Datasheet)", 3 NEN (in) "An open-collector (open-drain) negative logic input that is referenced to -VI. This input must be pulled to -VI potential to enable the converter. When the input is open circuit, the converter output is disabled. If the (See Datasheet)", 4 -VI (power) "The negative input supply for the module, and the 0-V reference for the PEN and NEN enable inputs. When powering the module from a positive source, this input is connected to the input source return.", 5 TRACK (in) "This terminal is used in power-up sequencing applications to control the output voltage of Auto-Track compatible modules, powered from the converter VOBus output. This includes the converter VOSeq output on the PTB48560B. (See Datasheet)", 6 VO COM (power) "This is the output power return for both the VO Bus and VO Seq output voltages. This terminal should be connected to the common of the load circuit.", 7 -SENSE (in) "Provides the converter with a remote sense capability when used with +Sense. For optimum output voltage accuracy, this pin should always be connected to VOCOM, close to the load circuit. This terminal is also the reference (See Datasheet)", 8 VO ADJUST (in) "A resistor must be connected between this terminal and -Sense to set the converter output voltage. A 0.05-W rated resistor may be used, with tolerance and temperature stability of 1% and 100 ppm/degreesC, respectively. If (See Datasheet)", 9 +SENSE (in) "The +Sense pin can be connected to VOBus (or VOSeq) output. When connected to VOSeq, remote sense compensation is delayed until the converter's power-up sequence is complete. The voltage at VOBus is also raised slightly. The (See Datasheet)", 10 VO BUS (power) "This is the positive power output with respect to VO COM, and the main output from the converter. It is dc isolated from the input power pins and produces a valid output voltage approximately 20 ms before the voltage at the (See Datasheet)", 11 VO SEQ (power) "This is a sequenced output voltage from the converter that is controlled by the Track terminal during power-up transitions. It is only available to the PTB48560B, and used with the output voltage set to 3.3 V (an I/O supply (See Datasheet)"